# Altium integrated library my Integrated lib .IntLib: 65 symbols (part 2 of 2)

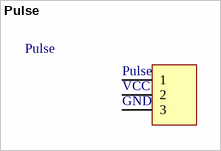
[diagram p23: symbol Pulse]

## Pulse
designator Pulse  (value not drawn)
footprint Pulse
pins: 1, 2, 3
text: VCC; GND


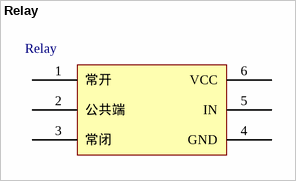
[diagram p24: symbol Relay]

## Relay
designator Relay  (value not drawn)
footprint Relay
pins: 1 常开, 2 公共端, 3 常闭, 4 GND, 5 IN, 6 VCC


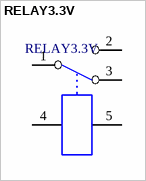
[diagram p25: symbol RELAY3.3V]

## RELAY3.3V
designator RELAY3.3V  (value not drawn)
footprint RELAY3.3V
pins: 1, 2, 3, 4, 5


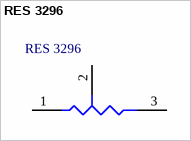
[diagram p26: symbol RES 3296]

## RES 3296
designator RES 3296  (value not drawn)
footprint RES 3296
pins: 1 A, 2 TAP, 3 B


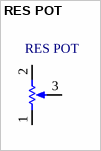
[diagram p27: symbol RES POT]

## RES POT
designator RES POT  (value not drawn)
footprint RES POT
pins: 1 TOP, 2 BOT, 3 TAP


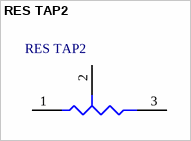
[diagram p28: symbol RES TAP2]

## RES TAP2
designator RES TAP2  (value not drawn)
footprint RES TAP2
pins: 1 A, 2 TAP, 3 B


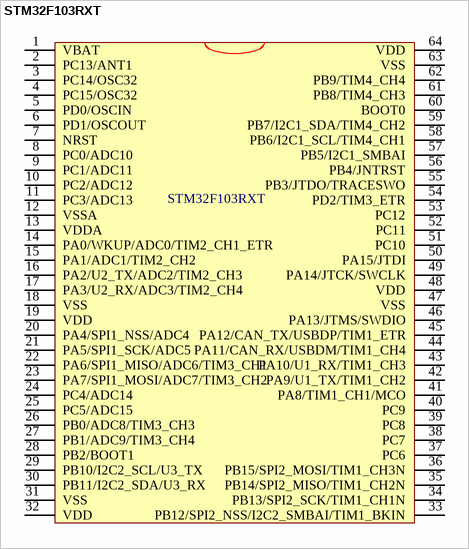
[diagram p29: symbol STM32F103RXT]

## STM32F103RXT
designator STM32F103RXT  (value not drawn)
footprint STM32F103RXT
pins: 1 VBAT, 2 PC13/ANT1, 3 PC14/OSC32, 4 PC15/OSC32, 5 PD0/OSCIN, 6 PD1/OSCOUT, 7 NRST, 8 PC0/ADC10, 9 PC1/ADC11, 10 PC2/ADC12, 11 PC3/ADC13, 12 VSSA, 13 VDDA, 14 PA0/WKUP/ADC0/TIM2_CH1_ETR, 15 PA1/ADC1/TIM2_CH2, 16 PA2/U2_TX/ADC2/TIM2_CH3, 17 PA3/U2_RX/ADC3/TIM2_CH4, 18 VSS, 19 VDD, 20 PA4/SPI1_NSS/ADC4, 21 PA5/SPI1_SCK/ADC5, 22 PA6/SPI1_MISO/ADC6/TIM3_CH1, 23 PA7/SPI1_MOSI/ADC7/TIM3_CH2, 24 PC4/ADC14, 25 PC5/ADC15, 26 PB0/ADC8/TIM3_CH3, 27 PB1/ADC9/TIM3_CH4, 28 PB2/BOOT1, 29 PB10/I2C2_SCL/U3_TX, 30 PB11/I2C2_SDA/U3_RX, 31 VSS, 32 VDD, 33 PB12/SPI2_NSS/I2C2_SMBAI/TIM1_BKIN, 34 PB13/SPI2_SCK/TIM1_CH1N, 35 PB14/SPI2_MISO/TIM1_CH2N, 36 PB15/SPI2_MOSI/TIM1_CH3N, 37 PC6, 38 PC7, 39 PC8, 40 PC9, 41 PA8/TIM1_CH1/MCO, 42 PA9/U1_TX/TIM1_CH2, 43 PA10/U1_RX/TIM1_CH3, 44 PA11/CAN_RX/USBDM/TIM1_CH4, 45 PA12/CAN_TX/USBDP/TIM1_ETR, 46 PA13/JTMS/SWDIO, 47 VSS, 48 VDD, 49 PA14/JTCK/SWCLK, 50 PA15/JTDI, 51 PC10, 52 PC11, 53 PC12, 54 PD2/TIM3_ETR, 55 PB3/JTDO/TRACESWO, 56 PB4/JNTRST, 57 PB5/I2C1_SMBAI, 58 PB6/I2C1_SCL/TIM4_CH1, 59 PB7/I2C1_SDA/TIM4_CH2, 60 BOOT0, 61 PB8/TIM4_CH3, 62 PB9/TIM4_CH4, 63 VSS, 64 VDD


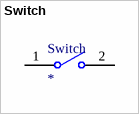
[diagram p30: symbol Switch]

## Switch
designator Switch
footprint Switch
pins: 1 COMMON, 2 NO


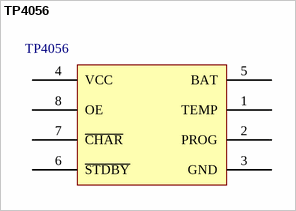
[diagram p31: symbol TP4056]

## TP4056
designator TP4056  (value not drawn)
footprint TP4056
pins: 1 TEMP, 2 PROG, 3 GND, 4 VCC, 5 BAT, 6 ~{STDBY}, 7 ~{CHAR}, 8 OE


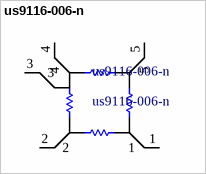
[diagram p32: symbol us9116-006-n]

## us9116-006-n
designator us9116-006-n
footprint us9116-006-n
pins: 1, 2, 3, 4, 5


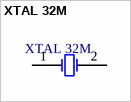
[diagram p33: symbol XTAL 32M]

## XTAL 32M
designator XTAL 32M  (value not drawn)
footprint XTAL 32M
pins: 1 OSC1, 2 OSC2


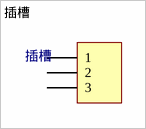
[diagram p34: symbol 插槽]

## 插槽
designator 插槽  (value not drawn)
footprint 杜邦线插槽
pins: 1, 2, 3